# Altium schematic symbol library SCH - RF - AMPLIFIER - NXP BGA2800.SCHLIB: 1 symbol
Pins are listed as number, name and electrical type; pins without a type are passive.

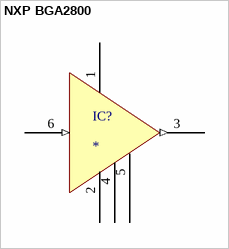
[diagram p0: symbol NXP BGA2800]

## NXP BGA2800
designator IC?
pins: 1 VCC (power), 2 GND (power), 3 RFOUT (out), 4 GND (power), 5 GND (power), 6 RFIN (in)